# Altium footprint library m.PcbLib: 55 footprints (part 1 of 4)
Each footprint in its own frame and in the unit in brackets; x right, y up, seen from the top. Pads: shape width x height; smd on the part's side, far side on the other; paste and mask are expansions set on the pad; w line width, h text height; cw(c..) or ccw(c..) is an arc to the next point about the centre after c.
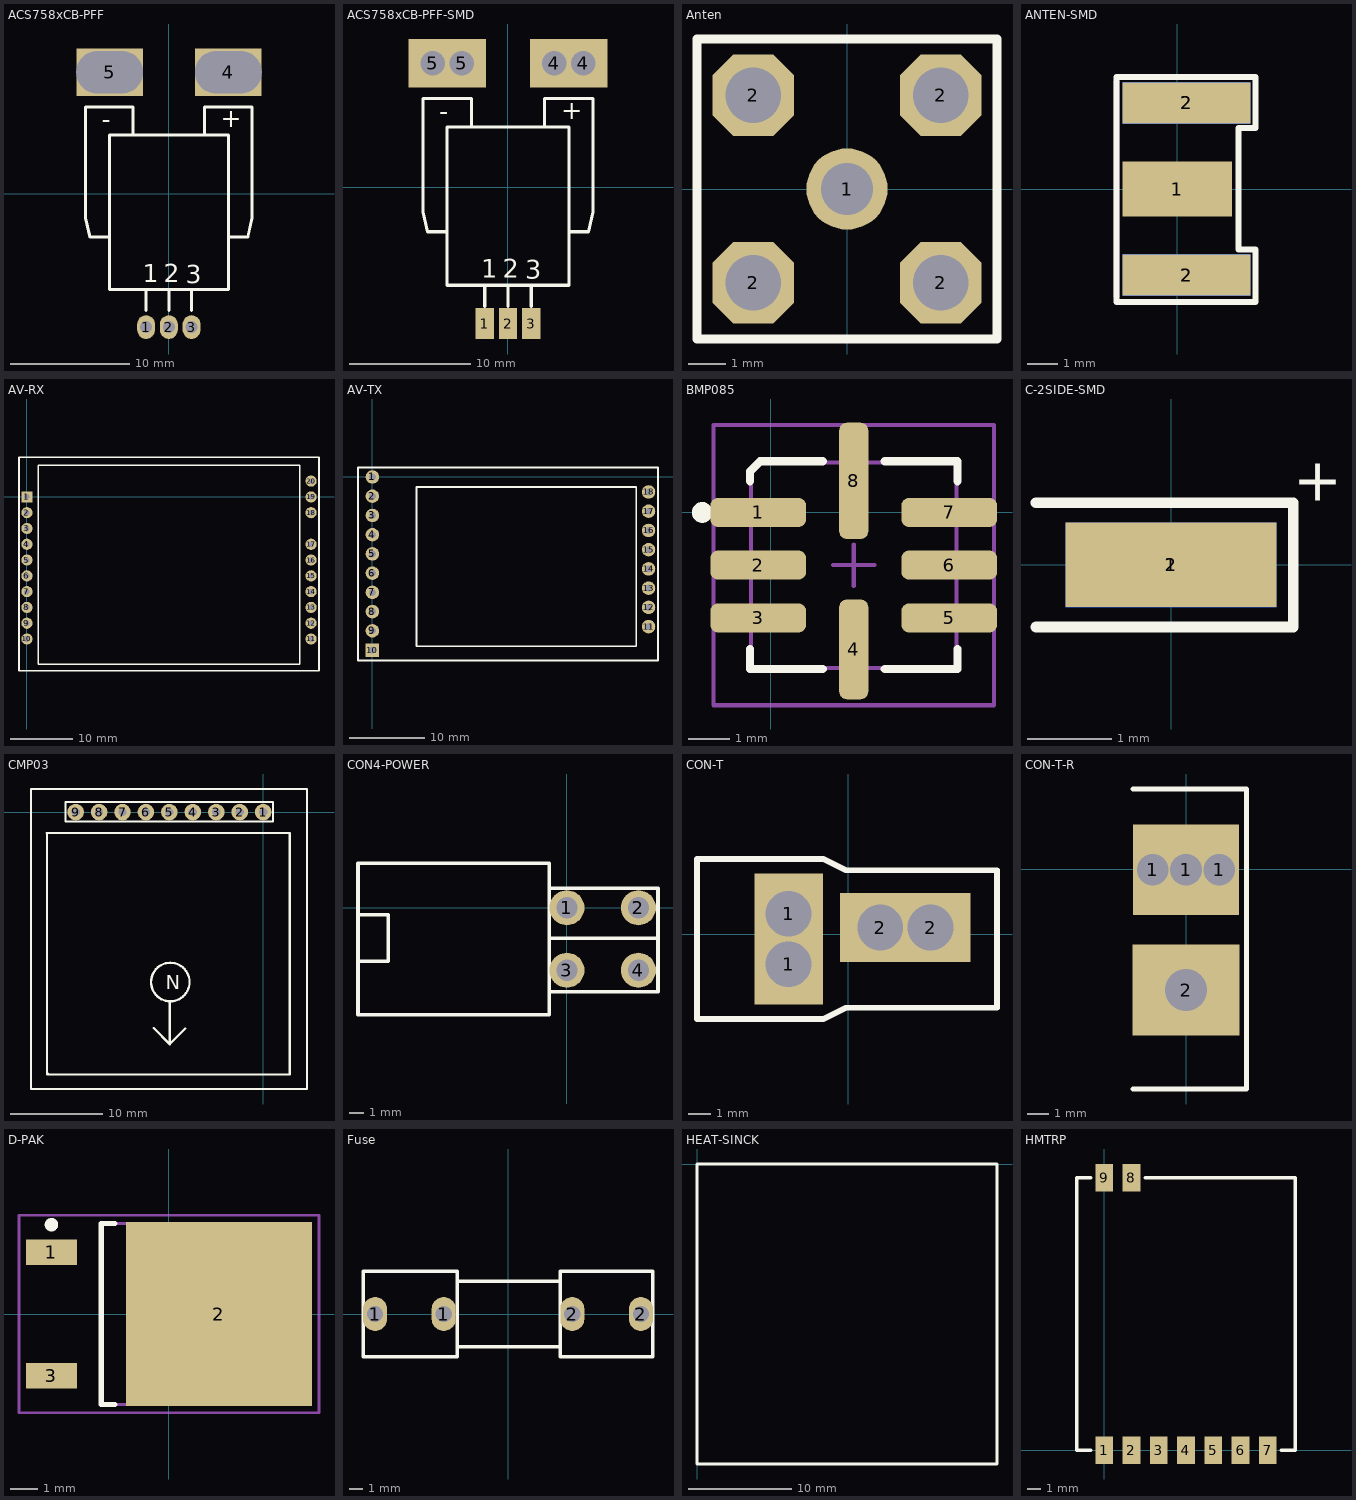
[diagram p0: the footprints below, top view; thin cyan lines are the x and y axes]

## ACS758xCB-PFF [mm]
pads (5):
  oval 1.5x2 hole 1: 1(-1.91,-11.2) 2(0,-11.2) 3(1.91,-11.2)
  rect 5.588x4 hole 3.556 slot 5.588 at 0 deg: 4(5.004,10.211) 5(-4.978,10.211)
Top Overlay:
  lines w0.254: -7,7.279 -7,-2.043 -6.629,-3.65 -5.007,-3.65 -5,-3.643 ; -7,7.3 -3,7.3 ; -3,4.95 -3,7.279 ; -1.91,-9.8 -1.91,-8.055 ; 0,-9.8 0,-8.055 ; 1.91,-9.8 1.91,-8.055 ; 3,4.95 3,7.304 ; 3,7.3 7,7.3 ; 5,-3.643 5.007,-3.65 6.629,-3.65 7,-2.043 7,7.304 ; -5,-8.05 -5,4.95 5,4.95 5,-8.05 -5,-8.05
  text "+" at 4.369,5.603 h1.52
  text "-" at -5.639,5.501 h1.52
  text "1" at -2.184,-7.453 h1.52
  text "2" at -0.432,-7.453 h1.52
  text "3" at 1.401,-7.512 h1.52
3D body: height 1, standoff 0, extent -7.015,-3.68 -2.969,7.29
3D body: height 1, standoff 0, extent 2.969,-3.68 7.015,7.29
3D body: height 2, standoff 0, extent -5.039,-8.092 5.065,4.945
3D body: height 0.5, standoff 0, extent 1.783,-10.668 2.037,-7.569
3D body: height 0.5, standoff 0, extent -0.114,-10.729 0.14,-7.63
3D body: height 0.5, standoff 0, extent -2.027,-10.714 -1.773,-7.615

## ACS758xCB-PFF-SMD [mm]
pads (7):
  rect 1.5x2.54 smd: 1(-1.91,-11.2) 2(0,-11.2) 3(1.91,-11.2)
  rect 4x4 hole 2: 4(3.8,10.2) 4(6.2,10.2) 5(-6.2,10.2) 5(-3.8,10.2)
Top Overlay:
  lines w0.254: -7,7.279 -7,-2.043 -6.629,-3.65 -5.007,-3.65 -5,-3.643 ; -7,7.3 -3,7.3 ; -3,4.95 -3,7.279 ; -1.91,-9.8 -1.91,-8.055 ; 0,-9.8 0,-8.055 ; 1.91,-9.8 1.91,-8.055 ; 3,4.95 3,7.304 ; 3,7.3 7,7.3 ; 5,-3.643 5.007,-3.65 6.629,-3.65 7,-2.043 7,7.304 ; -5,-8.05 5,-8.05 5,4.95 -5,4.95 -5,-8.05
  text "3" at 1.401,-7.512 h1.52
  text "2" at -0.432,-7.453 h1.52
  text "1" at -2.184,-7.453 h1.52
  text "-" at -5.639,5.501 h1.52
  text "+" at 4.369,5.603 h1.52
3D body: height 0.5, standoff 0, extent -2.027,-10.714 -1.773,-7.615
3D body: height 0.5, standoff 0, extent -0.114,-10.729 0.14,-7.63
3D body: height 0.5, standoff 0, extent 1.783,-10.668 2.037,-7.569
3D body: height 2, standoff 0, extent -5.039,-8.092 5.065,4.945
3D body: height 1, standoff 0, extent 2.969,-3.68 7.015,7.29
3D body: height 1, standoff 0, extent -7.015,-3.68 -2.969,7.29

## Anten [mm]
pads (5):
  round 2.2 hole 1.4: 1(0,0)
  oct 2.2x2.2 hole 1.5: 2(-2.54,-2.54) 2(-2.54,2.54) 2(2.54,-2.54) 2(2.54,2.54)
Top Overlay:
  lines w0.254: -4.064,-4.064 -4.064,4.064 4.064,4.064 4.064,-4.064 -4.064,-4.064
3D body: height 10.5, standoff 4, extent -2.988,-2.94 2.988,3.048
3D body: height 30, standoff 0, extent -1.952,-1.996 1.534,1.497
3D body: height 8.75, standoff 4, extent -4.064,-4.064 3.904,3.92

## ANTEN-SMD [mm]
pads (5):
  rect 3.6x1.8 smd: 1(0,0)
  rect 4.2x1.35 smd: 2(0.3,-2.825) 2(0.3,2.825)
  rect 4.2x1.35 smd far side: 2(0.3,-2.825) 2(0.3,2.825)
Top Overlay:
  lines w0.2: 2,-1.976 2,1.976 ; 2.007,-1.981 2.559,-1.981 ; 2.007,2.007 2.565,2.007 2.565,3.683 -2,3.683 -2,-3.708 2.565,-3.708 ; 2.565,-3.702 2.565,-1.981
Mechanical 1:
  lines w0.2: -2,-3.5 -2,3.5
3D body "SMA-J-P-H-ST-EM1.step": height 3.76, standoff -2.59, extent -11.665,-3.2 1.665,3.15

## AV-RX [mm]
pads (20):
  rect 1.8x1.8 hole 0.9: 1(0,0)
  round 1.8 hole 0.9: 2(0,-2.54) 3(0,-5.08) 4(0,-7.62) 5(0,-10.16) 6(0,-12.7) 7(0,-15.24) 8(0,-17.78) 9(0,-20.32) 10(0,-22.86) 11(45.72,-22.86) 12(45.72,-20.32) 13(45.72,-17.78) 14(45.72,-15.24) 15(45.72,-12.7) 16(45.72,-10.16) 17(45.72,-7.62) 18(45.72,-2.54) 19(45.72,0) 20(45.72,2.54)
Top Overlay:
  lines w0.254: 1.854,-26.92 1.854,5.08 43.854,5.08 ; 1.866,-26.924 43.866,-26.924 43.866,5.076 ; -1.27,-27.94 46.99,-27.94 46.99,6.35 -1.27,6.35 -1.27,-27.94
3D body: height 4, standoff 0, extent 45.222,-3.023 46.218,-2.025
3D body: height 4, standoff 0, extent 45.222,-23.343 46.218,-22.345
3D body: height 4, standoff 0, extent 45.222,-20.803 46.218,-19.805
3D body: height 4, standoff 0, extent 45.222,-18.263 46.218,-17.265
3D body: height 4, standoff 0, extent 45.222,-15.723 46.218,-14.725
3D body: height 4, standoff 0, extent 45.222,-13.183 46.218,-12.185
3D body: height 4, standoff 0, extent 45.222,-10.643 46.218,-9.645
3D body: height 4, standoff 0, extent 45.222,-8.103 46.218,-7.105
3D body: height 4, standoff 0, extent 45.222,-0.483 46.218,0.515
3D body: height 4, standoff 0, extent 45.222,2.057 46.218,3.055
3D body: height 4, standoff 0, extent -0.498,-3.023 0.498,-2.025
3D body: height 4, standoff 0, extent -0.498,-0.483 0.498,0.515
3D body: height 4, standoff 0, extent -0.498,-8.103 0.498,-7.105
3D body: height 4, standoff 0, extent -0.498,-5.563 0.498,-4.565
3D body: height 4, standoff 0, extent -0.498,-13.183 0.498,-12.185
3D body: height 4, standoff 0, extent -0.498,-10.643 0.498,-9.645
3D body: height 4, standoff 0, extent -0.498,-18.263 0.498,-17.265
3D body: height 4, standoff 0, extent -0.498,-15.723 0.498,-14.725
3D body: height 4, standoff 0, extent -0.498,-20.803 0.498,-19.805
3D body: height 4, standoff 0, extent -0.498,-23.343 0.498,-22.345
3D body: height 3.5, standoff 2.5, extent -1.295,-27.94 47.015,6.375
3D body: height 7.9, standoff 3.5, extent 1.803,-26.899 43.866,5.08

## AV-TX [mm]
pads (18):
  round 1.78 hole 0.9: 1(0,0) 2(0,-2.54) 3(0,-5.08) 4(0,-7.62) 5(0,-10.16) 6(0,-12.7) 7(0,-15.24) 8(0,-17.78) 9(0,-20.32) 11(36.471,-19.761) 12(36.471,-17.221) 13(36.471,-14.681) 14(36.471,-12.141) 15(36.471,-9.601) 16(36.471,-7.061) 17(36.471,-4.521) 18(36.471,-1.981)
  rect 1.78x1.78 hole 0.9: 10(0,-22.86)
Top Overlay:
  lines w0.254: 34.823,-22.352 5.842,-22.352 5.842,-1.346 34.845,-1.346 34.845,-22.352 ; -1.905,-24.257 37.719,-24.257 37.719,1.27 -1.905,1.27 -1.905,-24.257
3D body: height 4, standoff 0, extent 35.976,-17.729 36.972,-16.731
3D body: height 4, standoff 0, extent 35.976,-20.269 36.972,-19.271
3D body: height 4, standoff 0, extent 35.976,-12.649 36.972,-11.651
3D body: height 4, standoff 0, extent 35.976,-15.189 36.972,-14.191
3D body: height 4, standoff 0, extent 35.976,-7.569 36.972,-6.571
3D body: height 4, standoff 0, extent 35.976,-10.109 36.972,-9.111
3D body: height 4, standoff 0, extent 35.976,-2.489 36.972,-1.491
3D body: height 4, standoff 0, extent 35.976,-5.029 36.972,-4.031
3D body: height 3.5, standoff 2.5, extent -1.796,-24.359 37.871,1.422
3D body: height 7.9, standoff 3.5, extent 5.462,-22.377 34.95,-1.397
3D body: height 4, standoff 0, extent -0.498,-3.023 0.498,-2.025
3D body: height 4, standoff 0, extent -0.498,-0.483 0.498,0.515
3D body: height 4, standoff 0, extent -0.498,-8.103 0.498,-7.105
3D body: height 4, standoff 0, extent -0.498,-5.563 0.498,-4.565
3D body: height 4, standoff 0, extent -0.498,-13.183 0.498,-12.185
3D body: height 4, standoff 0, extent -0.498,-10.643 0.498,-9.645
3D body: height 4, standoff 0, extent -0.498,-18.263 0.498,-17.265
3D body: height 4, standoff 0, extent -0.498,-15.723 0.498,-14.725
3D body: height 4, standoff 0, extent -0.498,-20.803 0.498,-19.805
3D body: height 4, standoff 0, extent -0.498,-23.343 0.498,-22.345

## BMP085 [mm] "LCC, 8-Pins"
height 1.2
pads (8):
  rrect50% 2.3x0.7 smd: 1(-0.3,0) 2(-0.3,-1.27) 3(-0.3,-2.54) 5(4.3,-2.54) 6(4.3,-1.27) 7(4.3,0)
  rrect50% 0.7x2.4 smd: 4(2,-3.3)
  rrect50% 0.7x2.8 smd: 8(2,0.76)
Top Overlay:
  circle w0.25: c-1.65,0 r0.125
  lines w0.2: -0.5,-3.29 -0.5,-3.77 1.25,-3.77 ; -0.5,0.75 -0.5,0.99 -0.26,1.23 1.25,1.23 ; 2.75,-3.77 4.5,-3.77 4.5,-3.29 ; 2.75,1.23 4.5,1.23 4.5,0.75
Mechanical 13:
  lines w0.1: -0.475,-3.745 -0.475,0.965 -0.235,1.205 4.475,1.205 4.475,-3.745 -0.475,-3.745
Mechanical 15:
  lines w0.1: 1.5,-1.27 2.5,-1.27 ; 2,-1.77 2,-0.77 ; -1.375,-4.645 -1.375,2.105 5.375,2.105 5.375,-4.645 -1.375,-4.645
3D body: height 1.2, standoff 0, extent -0.475,-3.745 4.475,1.205

## C-2SIDE-SMD [mm] "CAP - OUTSIDE BOARD"
pads (2):
  rect 2.5x1 smd: 1(0,0)
  rect 2.5x1 smd far side: 2(0,0)
Top Overlay:
  lines w0.127: -1.6,-0.737 1.448,-0.737 1.448,0.737 -1.6,0.737
  text "+" at 1.448,0.762 h0.51
Bottom Overlay:
  lines w0.127: -1.6,-0.737 1.448,-0.737 1.448,0.737 -1.6,0.737

## CMP03 [mm]
pads (9):
  round 1.8 hole 0.9: 1(0,0) 2(-2.54,0) 3(-5.08,0) 4(-7.62,0) 5(-10.16,0) 6(-12.7,0) 7(-15.24,0) 8(-17.78,0) 9(-20.32,0)
Top Overlay:
  circle w0.254: c-10.061,-18.415 r2.085
  lines w0.254: -25.16,2.5 -25.16,-30 4.74,-30 4.74,2.5 ; -25.147,2.5 4.753,2.5 ; -23.317,-28.321 -23.419,-28.423 ; -11.862,-23.393 -10.135,-25.121 -10.135,-25.146 ; -10.135,-20.523 -10.135,-25.171 -10.135,-25.146 ; -8.433,-23.444 -10.135,-25.146 ; 2.87,-28.397 2.87,-2.261 -23.444,-2.261 -23.419,-2.286 -23.419,-28.423 ; 2.896,-28.423 -23.419,-28.423 ; -21.412,-1.016 -21.412,1.092 1.067,1.092 1.067,-1.016 -21.412,-1.016
  text "N" at -10.566,-19.177 h1.52

## CON4-POWER [mm] "CON4-For POWER-Right"
pads (4):
  round 2.5 hole 1.5: 1(0,0) 2(5.08,0) 3(0,-4.445) 4(5.08,-4.445)
Top Overlay:
  lines w0.254: -14.859,-3.81 -12.7,-3.81 -12.7,-0.508 -14.859,-0.508 ; -1.27,-5.969 6.477,-5.969 6.477,1.397 -1.27,1.397 ; -1.27,-2.159 6.477,-2.159 ; -14.859,-7.62 -14.859,3.175 -1.27,3.175 -1.27,-7.62 -14.859,-7.62
3D body: height 10.67, standoff 7.62, extent -14.859,-3.81 -12.7,-0.508
3D body: height 8.63, standoff 6.6, extent -2.533,-5.452 5.087,-3.424
3D body: height 8.63, standoff 6.6, extent -2.54,-1.143 5.08,0.885
3D body: height 3.55, standoff 1.52, extent -2.662,-1.139 -0.122,0.889
3D body: height 3.55, standoff 1.52, extent -2.535,-5.461 0.005,-3.433
3D body: height 3.56, standoff 1.52, extent -1.005,-5.457 1.016,-3.433
3D body: height 3.56, standoff 1.52, extent -1.132,-1.134 0.889,0.889
3D body: height 8.64, standoff 6.6, extent 4.069,-1.143 6.091,0.88
3D body: height 8.64, standoff 6.6, extent 4.077,-5.45 6.099,-3.427
3D body: height 7.62, standoff 0, extent 4.068,-1.143 6.092,0.885
3D body: height 7.62, standoff 0, extent 4.075,-5.452 6.099,-3.424
3D body: height 2.54, standoff 0, extent -1.007,-5.457 1.017,-3.429
3D body: height 2.54, standoff 0, extent -1.134,-1.134 0.89,0.894
3D body: height 9.53, standoff 0, extent -14.859,-7.62 -1.27,3.175

## CON-T [mm]
pads (4):
  rect 3x3.5 hole 2: 1(-2.6,-1.3) 1(-2.6,0.9)
  rect 3.5x3 hole 2: 2(1.4,0.3) 2(3.6,0.3)
Top Overlay:
  lines w0.254: -6.6,-3.7 -1.1,-3.7 -0.1,-3.2 6.5,-3.2 6.5,2.8 -0.1,2.8 -1.1,3.3 -6.6,3.3 -6.6,-3.7
3D body: height 7, standoff 0, extent -6.628,-0.508 6.453,3.29
3D body: height 7, standoff 0, extent -6.628,-3.544 6.453,0.254
3D body: height 6.75, standoff 0, extent -4.242,-0.203 -0.94,2.845
3D body: height 6.75, standoff 0, extent -4.242,-3.251 -0.94,-0.203
3D body: height 6.75, standoff 0, extent -0.559,0.305 5.563,2.007
3D body: height 6.75, standoff 0, extent -0.559,-1.448 5.563,0.254

## CON-T-R [mil] "T- Connector-for Battery - RIGHT - PIN 1->+ And PIN 2->-"
pads (4):
  rect 74.8x170 hole 59.06: 1(-62,-1) 1(0,-1) 1(62,-1)
  rect 200x170 hole 78.74: 2(0,-226)
Top Overlay:
  lines w10: -99,-411 113,-411 113,150 -99,150
3D body: height 157.48, standoff -157.48, extent -335,-410 -103,150

## D-PAK [mm] "D-PAK, 3-Pads, Body 6.2x6.7mm (max), IPC Medium Density"
height 2.38
pads (3):
  rect 1.9x0.95 smd: 1(-4.35,2.28) 3(-4.35,-2.28)
  rect 6.9x6.8 smd: 2(1.85,0)
Top Overlay:
  circle w0.25: c-4.35,3.305 r0.125
  lines w0.2: -2,-3.35 -2.5,-3.35 -2.5,3.35 -2,3.35
Mechanical 13:
  lines w0.1: -2.5,-3.35 -2.5,3.35 3.7,3.35 3.7,-3.35 -2.5,-3.35
Mechanical 15:
  lines w0.1: -0.5,0 0.5,0 ; 0,-0.5 0,0.5 ; -5.55,-3.65 -5.55,3.65 5.55,3.65 5.55,-3.65 -5.55,-3.65
3D body: height 2.38, standoff 0, extent -2.5,-3.35 3.7,3.35

## Fuse [mil]
pads (4):
  oval 70x100 hole 47.24: 1(-387.5,0) 1(-187.5,0) 2(187.5,0) 2(387.5,0)
Top Overlay:
  lines w10: -147.5,-95 147.5,-95 ; -147.5,95 147.5,95 ; -422.5,-125 -422.5,125 -147.5,125 -147.5,-125 -422.5,-125 ; 152.5,-125 422.5,-125 422.5,125 152.5,125 152.5,-125
3D body: height 400, standoff 0, extent 147.5,-125 422.5,125
3D body: height 389.29, standoff 210, extent -197.5,-89.8 202.5,89.84
3D body: height 400, standoff 0, extent -422.5,-125 -147.5,125

## HEAT-SINCK [mm]
Top Overlay:
  lines w0.254: 0,-29.21 29.21,-29.21 29.21,0 0,0 0,-29.21
3D body: height 2.79, standoff 0, extent 0,-29.21 29.21,0
3D body: height 10.16, standoff 0, extent 0.381,-29.21 2.032,0
3D body: height 10.16, standoff 0, extent 3.683,-29.21 5.334,0
3D body: height 10.16, standoff 0, extent 6.985,-29.21 8.636,0
3D body: height 10.16, standoff 0, extent 10.287,-29.21 11.938,0
3D body: height 10.16, standoff 0, extent 13.589,-29.21 15.24,0
3D body: height 10.16, standoff 0, extent 16.891,-29.21 18.542,0
3D body: height 10.16, standoff 0, extent 20.193,-29.21 21.844,0
3D body: height 10.16, standoff 0, extent 23.495,-29.21 25.146,0
3D body: height 10.16, standoff 0, extent 26.797,-29.21 28.448,0

## HMTRP [mm]
pads (9):
  rect 1.3x2 smd: 1(0,0) 2(2,0) 3(4,0) 4(6,0) 5(8,0) 6(10,0) 7(12,0) 8(2,20) 9(0,20)
Top Overlay:
  lines w0.254: -1,0 -2,0 -2,20 -1,20 ; 3,20 14,20 14,0 13,0
3D body: height 2, standoff 0, extent -1.981,0.051 14.046,20.041